# EAGLE library part AT45DB321D-T (library memory-atmel)
FLASH MEMORY 64-megabit, 2.7-volt, DataFlash®
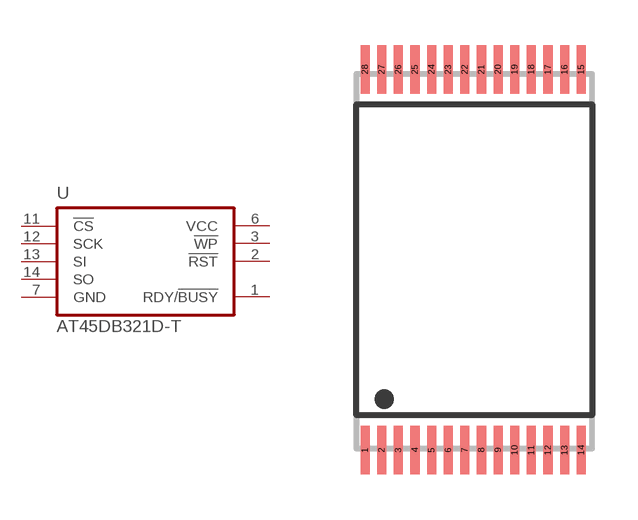
[diagram p13: symbol with the pads of TSOP28-1; footprint TSOP28-1]

Designator prefix U

## AT45DB321D-T  [TSOP28-1]
1  RDY/!BUSY!
2  !RST!
3  !WP!
6  VCC  pwr
7  GND  pwr
11  !CS!
12  SCK
13  SI
14  SO

## Footprint TSOP28-1 (pad centres in mm)
TSOP28 - Type I body 11.8 x 8 mm
smd 0.3 x 1.6: 1 -3.81,-6.45; 2 -3.26,-6.45; 3 -2.71,-6.45; 4 -2.16,-6.45; 5 -1.61,-6.45; 6 -1.06,-6.45; 7 -0.51,-6.45; 8 0.04,-6.45; 9 0.59,-6.45; 10 1.14,-6.45; 11 1.69,-6.45; 12 2.24,-6.45; 13 2.79,-6.45; 14 3.34,-6.45; 15 3.34,6.15; 16 2.79,6.15; 17 2.24,6.15; 18 1.69,6.15; 19 1.14,6.15; 20 0.59,6.15; 21 0.04,6.15; 22 -0.51,6.15; 23 -1.06,6.15; 24 -1.61,6.15; 25 -2.16,6.15; 26 -2.71,6.15; 27 -3.26,6.15; 28 -3.81,6.15